# Altium schematic symbol library LTC3604-MSOP16.SchLib: 1 symbol
Pins are listed as number, name and electrical type; pins without a type are passive.

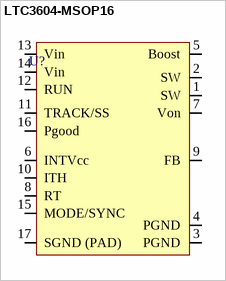
[diagram p0: symbol LTC3604-MSOP16]

## LTC3604-MSOP16
designator U?  (value not drawn)
pins: 1 SW, 2 SW, 3 PGND, 4 PGND, 5 Boost, 6 INTVcc, 7 Von, 8 RT, 9 FB, 10 ITH, 11 TRACK/SS, 12 RUN, 13 Vin, 14 Vin, 15 MODE/SYNC, 16 Pgood, 17 SGND (PAD)